# Altium schematic symbol library Optocoupler.SchLib: 4 symbols
Pins are listed as number, name and electrical type; pins without a type are passive.

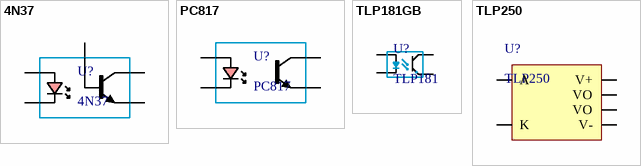
[diagram p0: symbols 4N37 to TLP250]

## 4N37
designator U?
General Purpose Type Photocoupler
footprint DIP6
pins: 1 A "Anode", 2 K "Cathode", 4 E "Emitter", 5 C "Collector", 6 B "Base"

## PC817
designator U?
High Density Mounting Type Photocoupler
footprint DIP4
pins: 1 A "Anode", 2 K "Cathode", 3 E "Emitter", 4 C "Collector"

## TLP181GB
designator U?, comment TLP181
GaAs Ired & Photo−Transistor
footprint 11-4C1 (Toshiba TLP181GB SMD Footprint)
pins: 1 A, 3 K, 4 E, 6 C

## TLP250
designator U?
footprint DIP8
pins: 2 A, 3 K, 5 V-, 6 VO, 7 VO, 8 V+